# Altium footprint library PCB.PcbLib: 25 footprints (part 1 of 2)
Each footprint in its own frame and in the unit in brackets; x right, y up, seen from the top. Pads: shape width x height; smd on the part's side, far side on the other; paste and mask are expansions set on the pad; w line width, h text height; cw(c..) or ccw(c..) is an arc to the next point about the centre after c.
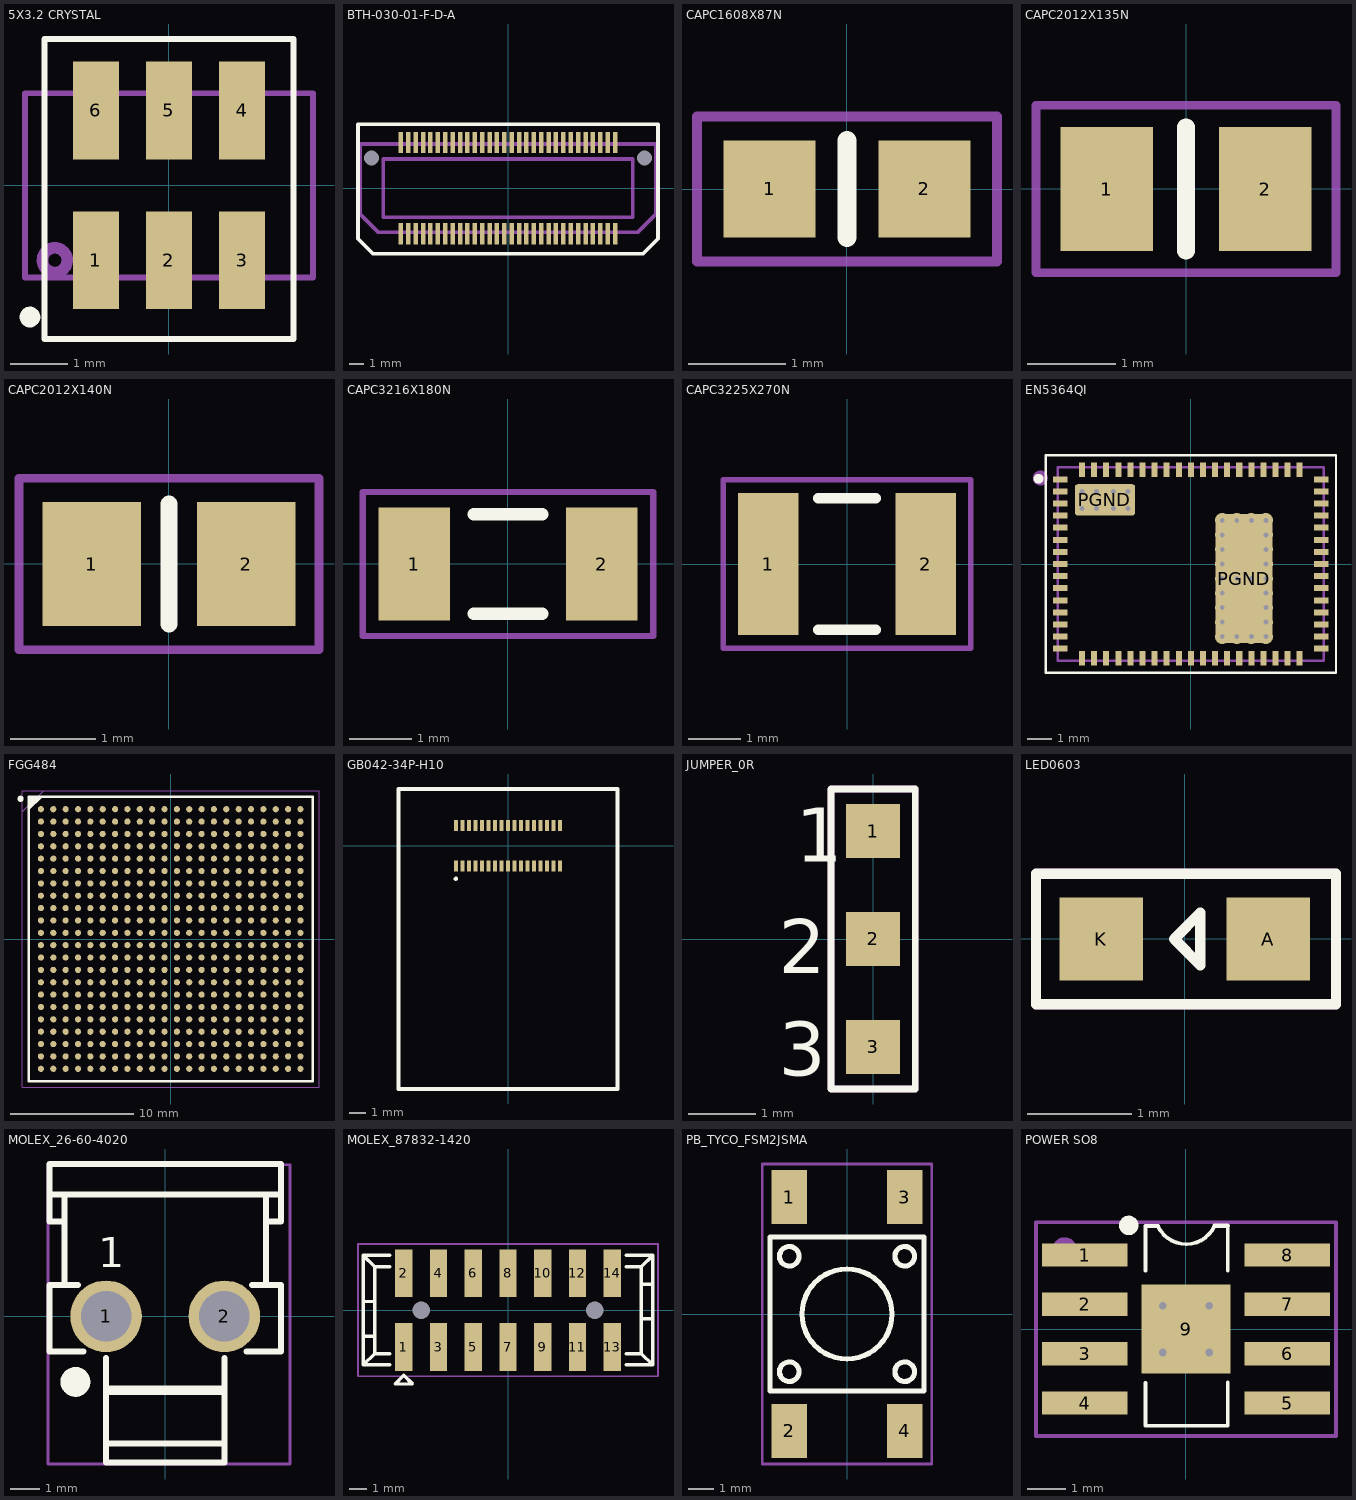
[diagram p0: the footprints below, top view; thin cyan lines are the x and y axes]

## 5X3.2 CRYSTAL [mm] "5X3.2 Crystal"
height 1.2
pads (6):
  rect 0.8x1.7 smd: 1(-1.27,-1.3) 2(0,-1.3) 3(1.27,-1.3) 4(1.27,1.3) 5(0,1.3) 6(-1.27,1.3)
Top Overlay:
  circle w0.2: c-2.413,-2.286 r0.079
  lines w0.1: -2.159,-2.667 2.159,-2.667 2.159,2.54 -2.159,2.54 -2.159,-0.858 -2.159,-2.667
Mechanical 4:
  lines w0.1: -2.5,-1.6 -2.5,1.6 2.5,1.6 2.5,-1.6 -2.5,-1.6
  lines w0.2: -1.809,-1.173 ccw(c-1.981,-1.3) -1.792,-1.199
  text ".designator" at -2.032,-0.508 h1
3D body "User Library-CRYSTALSMD5X32.STEP": height 1, standoff 0, extent -2.5,-1.625 2.5,1.575

## BTH-030-01-F-D-A [mm]
pads (62):
  rect 0.305x1.448 smd: 1(-7.25,3.086) 2(-7.25,-3.086) 3(-6.75,3.086) 4(-6.75,-3.086) 5(-6.25,3.086) 6(-6.25,-3.086) 7(-5.75,3.086) 8(-5.75,-3.086) 9(-5.25,3.086) 10(-5.25,-3.086) 11(-4.75,3.086) 12(-4.75,-3.086) 13(-4.25,3.086) 14(-4.25,-3.086) 15(-3.75,3.086) 16(-3.75,-3.086) 17(-3.25,3.086) 18(-3.25,-3.086) 19(-2.75,3.086) 20(-2.75,-3.086) 21(-2.25,3.086) 22(-2.25,-3.086) 23(-1.75,3.086) 24(-1.75,-3.086) 25(-1.25,3.086) 26(-1.25,-3.086) 27(-0.75,3.086) 28(-0.75,-3.086) 29(-0.25,3.086) 30(-0.25,-3.086) 31(0.25,3.086) 32(0.25,-3.086) 33(0.75,3.086) 34(0.75,-3.086) 35(1.25,3.086) 36(1.25,-3.086) 37(1.75,3.086) 38(1.75,-3.086) 39(2.25,3.086) 40(2.25,-3.086) 41(2.75,3.086) 42(2.75,-3.086) 43(3.25,3.086) 44(3.25,-3.086) 45(3.75,3.086) 46(3.75,-3.086) 47(4.25,3.086) 48(4.25,-3.086) 49(4.75,3.086) 50(4.75,-3.086) 51(5.25,3.086) 52(5.25,-3.086) 53(5.75,3.086) 54(5.75,-3.086) 55(6.25,3.086) 56(6.25,-3.086) 57(6.75,3.086) 58(6.75,-3.086) 59(7.25,3.086) 60(7.25,-3.086)
  round 0.8 hole 1.016 unplated mask+0.358: HOLE(-9.238,2.032) HOLE(9.238,2.032)
Top Overlay:
  lines w0.254: -10.16,-3.429 -10.16,4.318 10.16,4.318 10.16,-3.429 9.144,-4.445 -9.144,-4.445 -10.16,-3.429
Mechanical 4:
  lines w0.254: -10,-1.785 -10,2.984 10,2.984 10,-1.785 8.8,-2.985 -8.8,-2.985 -10,-1.785 ; -8.444,-1.969 -8.444,1.968 8.444,1.968 8.444,-1.969 -8.444,-1.969
  text ".Designator" at 0,0 h1
3D body "BTH-030-01-F-D-A.stp": height 4.27, standoff -0.75, extent -10.001,-3.556 10.001,3.556

## CAPC1608X87N [mm] "Chip Capacitor, Body 1.6x0.8mm IPC Medium Density"
height 0.87
pads (2):
  rect 0.95x1 smd: 1(-0.8,0) 2(0.8,0)
Top Overlay:
  lines w0.2: 0,-0.5 0,0.5
Mechanical 4:
  lines w0.1: -1.55,-0.75 1.55,-0.75 1.55,0.75 -1.55,0.75 -1.55,-0.75
  text ".Designator" at -1.524,-0.889 h1
3D body "CAPC1608X87N.stp": height 0.87, standoff 0, extent -0.875,-0.475 0.875,0.475

## CAPC2012X135N [mm] "Chip Capacitor, Body 2.0x1.25mm, IPC Medium Density"
height 1.35
pads (2):
  rect 1.05x1.4 smd: 1(-0.9,0) 2(0.9,0)
Top Overlay:
  lines w0.2: 0,-0.7 0,0.7
Mechanical 4:
  lines w0.1: -1.7,-0.95 -1.7,0.95 1.7,0.95 1.7,-0.95 -1.7,-0.95
  text ".Designator" at -1.6,-0.85 h1
3D body "CAPC2012X135N.stp": height 1.25, standoff 0, extent -1.05,-0.675 1.05,0.675

## CAPC2012X140N [mm] "Chip Capacitor, Body 2.0x1.25mm, IPC Medium Density"
height 1.4
pads (2):
  rect 1.15x1.45 smd: 1(-0.9,0) 2(0.9,0)
Top Overlay:
  lines w0.2: 0,-0.7 0,0.7
Mechanical 4:
  lines w0.1: -1.75,-1 1.75,-1 1.75,1 -1.75,1 -1.75,-1
  text ".Designator" at -1.524,-0.762 h1
3D body "CAPC2012X140N.stp": height 1.3, standoff 0, extent -1.05,-0.675 1.05,0.675

## CAPC3216X180N [mm] "Chip Capacitor, Body 3.2x1.6mm, IPC Medium Density"
height 1.8
pads (2):
  rect 1.15x1.8 smd: 1(-1.5,0) 2(1.5,0)
Top Overlay:
  lines w0.2: -0.55,-0.8 0.55,-0.8 ; -0.55,0.8 0.55,0.8
Mechanical 4:
  lines w0.1: -2.325,-1.15 2.325,-1.15 2.325,1.15 -2.325,1.15 -2.325,-1.15
  text ".Designator" at -2.175,-1 h1
3D body "CAPC3216X180N.stp": height 1.8, standoff 0, extent -1.7,-0.9 1.7,0.9

## CAPC3225X270N [mm] "Chip Capacitor, Body 3.2x2.5mm, IPC Medium Density"
height 2.7
pads (2):
  rect 1.15x2.7 smd: 1(-1.5,0) 2(1.5,0)
Top Overlay:
  lines w0.2: -0.55,-1.25 0.55,-1.25 ; -0.55,1.25 0.55,1.25
Mechanical 4:
  lines w0.1: -2.35,-1.6 2.35,-1.6 2.35,1.6 -2.35,1.6 -2.35,-1.6
  text ".Designator" at -2.15,-0.75 h1
3D body "CAPC3225X270N.stp": height 2.7, standoff 0, extent -1.7,-1.35 1.7,1.35

## EN5364QI [mm]
pads (70):
  rect 0.25x0.6 smd: AGND(2,3.9) AVIN(3,3.9) EAOUT(1,3.9) EN_PB(4,3.9) ENABLE(3.5,3.9) M/S(4.5,3.9) MAR1(-1,3.9) MAR2(-1.5,3.9) NC(-4.5,-3.9) NC(-4,-3.9) NC(-3.5,-3.9) NC(-3,-3.9) NC(-2.5,-3.9) NC(-2,-3.9) NC(-1.5,-3.9) NC(-1,-3.9) NC(-0.5,-3.9) NC(0,-3.9) NC(0.5,-3.9) OCP_ADJ(0.5,3.9) PGND(-4.5,3.9) PGND(-4,3.9) PGND(-3.5,3.9) PGND(-3,3.9) PGND(-2.5,3.9) PGND(1,-3.9) PGND(1.5,-3.9) PGND(2,-3.9) PGND(2.5,-3.9) PGND(3,-3.9) PGND(3.5,-3.9) PGND(4,-3.9) POK(2.5,3.9) PVIN(4.5,-3.9) S_DELAY(-0.5,3.9) SS(0,3.9) VFB(1.5,3.9) VSENSE(-2,3.9)
  rect 0.6x0.25 smd: NC(-5.4,-3.5) NC(-5.4,-3) NC(5.4,1) NC(5.4,1.5) NC(5.4,2) NC(5.4,2.5) PGND(-5.4,2) PGND(-5.4,2.5) PGND(-5.4,3) PGND(-5.4,3.5) PVIN(5.4,-3.5) PVIN(5.4,-3) PVIN(5.4,-2.5) PVIN(5.4,-2) PVIN(5.4,-1.5) PVIN(5.4,-1) PVIN(5.4,-0.5) PVIN(5.4,0) PVIN(5.4,0.5) SIN(5.4,3.5) SOUT(5.4,3) VOUT(-5.4,-2.5) VOUT(-5.4,-2) VOUT(-5.4,-1.5) VOUT(-5.4,-1) VOUT(-5.4,-0.5) VOUT(-5.4,0) VOUT(-5.4,0.5) VOUT(-5.4,1) VOUT(-5.4,1.5)
  rrect20% 2.5x1.3 smd: PGND(-3.55,2.65)
  rrect20% 2.35x5.35 smd: PGND(2.2,-0.6)
via -4.5,3 diameter 0.6 hole 0.2
via -4.5,2.3 diameter 0.6 hole 0.2
via -3.9,2.3 diameter 0.6 hole 0.2
via -2.6,2.3 diameter 0.6 hole 0.2
via -2.6,3 diameter 0.6 hole 0.2
via -3.9,3 diameter 0.6 hole 0.2
via -3.2,3 diameter 0.6 hole 0.2
via -3.2,2.3 diameter 0.6 hole 0.2
via 1.9,1.8 diameter 0.6 hole 0.2
via 2.5,1.8 diameter 0.6 hole 0.2
via 1.3,1.8 diameter 0.6 hole 0.2
via 1.3,1.2 diameter 0.6 hole 0.2
via 1.3,0.6 diameter 0.6 hole 0.2
via 1.3,0 diameter 0.6 hole 0.2
via 1.3,-0.6 diameter 0.6 hole 0.2
via 1.3,-1.2 diameter 0.6 hole 0.2
via 1.3,-1.8 diameter 0.6 hole 0.2
via 1.3,-2.4 diameter 0.6 hole 0.2
via 1.3,-3 diameter 0.6 hole 0.2
via 3.1,1.8 diameter 0.6 hole 0.2
via 3.1,1.2 diameter 0.6 hole 0.2
via 3.1,0.6 diameter 0.6 hole 0.2
via 3.1,0 diameter 0.6 hole 0.2
via 3.1,-0.6 diameter 0.6 hole 0.2
via 3.1,-1.2 diameter 0.6 hole 0.2
via 3.1,-1.8 diameter 0.6 hole 0.2
via 3.1,-2.4 diameter 0.6 hole 0.2
via 1.9,-3 diameter 0.6 hole 0.2
via 2.5,-3 diameter 0.6 hole 0.2
via 3.1,-3 diameter 0.6 hole 0.2
via 1.9,-0.6 diameter 0.6 hole 0.2
via 2.5,-0.6 diameter 0.6 hole 0.2
Top Overlay:
  circle w0.254: c-6.3,3.525 r0.075
  lines w0.1: -6,-4.5 -6,4.5 6,4.5 6,-4.5 -6,-4.5
Mechanical 4:
  circle w0.254: c-6.223,3.556 r0.18
  lines w0.1: -5.5,-4 -5.5,4 5.5,4 5.5,-4 -5.5,-4
  text ".Designator" at -0.1,-0.1 h1
3D body: height 1.85, standoff 0, extent -5.5,-4 5.5,4

## FGG484 [mm] "BGA, 484-Balls, Body 23x23mm, Pitch 1mm"
height 2.6
pads (484):
  round 0.5 smd: A1(-10.5,10.5) A2(-9.5,10.5) A3(-8.5,10.5) A4(-7.5,10.5) A5(-6.5,10.5) A6(-5.5,10.5) A7(-4.5,10.5) A8(-3.5,10.5) A9(-2.5,10.5) A10(-1.5,10.5) A11(-0.5,10.5) A12(0.5,10.5) A13(1.5,10.5) A14(2.5,10.5) A15(3.5,10.5) A16(4.5,10.5) A17(5.5,10.5) A18(6.5,10.5) A19(7.5,10.5) A20(8.5,10.5) A21(9.5,10.5) A22(10.5,10.5) AA1(-10.5,-9.5) AA2(-9.5,-9.5) AA3(-8.5,-9.5) AA4(-7.5,-9.5) AA5(-6.5,-9.5) AA6(-5.5,-9.5) AA7(-4.5,-9.5) AA8(-3.5,-9.5) AA9(-2.5,-9.5) AA10(-1.5,-9.5) AA11(-0.5,-9.5) AA12(0.5,-9.5) AA13(1.5,-9.5) AA14(2.5,-9.5) AA15(3.5,-9.5) AA16(4.5,-9.5) AA17(5.5,-9.5) AA18(6.5,-9.5) AA19(7.5,-9.5) AA20(8.5,-9.5) AA21(9.5,-9.5) AA22(10.5,-9.5) AB1(-10.5,-10.5) AB2(-9.5,-10.5) AB3(-8.5,-10.5) AB4(-7.5,-10.5) AB5(-6.5,-10.5) AB6(-5.5,-10.5) AB7(-4.5,-10.5) AB8(-3.5,-10.5) AB9(-2.5,-10.5) AB10(-1.5,-10.5) AB11(-0.5,-10.5) AB12(0.5,-10.5) AB13(1.5,-10.5) AB14(2.5,-10.5) AB15(3.5,-10.5) AB16(4.5,-10.5) AB17(5.5,-10.5) AB18(6.5,-10.5) AB19(7.5,-10.5) AB20(8.5,-10.5) AB21(9.5,-10.5) AB22(10.5,-10.5) B1(-10.5,9.5) B2(-9.5,9.5) B3(-8.5,9.5) B4(-7.5,9.5) B5(-6.5,9.5) B6(-5.5,9.5) B7(-4.5,9.5) B8(-3.5,9.5) B9(-2.5,9.5) B10(-1.5,9.5) B11(-0.5,9.5) B12(0.5,9.5) B13(1.5,9.5) B14(2.5,9.5) B15(3.5,9.5) B16(4.5,9.5) B17(5.5,9.5) B18(6.5,9.5) B19(7.5,9.5) B20(8.5,9.5) B21(9.5,9.5) B22(10.5,9.5) C1(-10.5,8.5) C2(-9.5,8.5) C3(-8.5,8.5) C4(-7.5,8.5) C5(-6.5,8.5) C6(-5.5,8.5) C7(-4.5,8.5) C8(-3.5,8.5) C9(-2.5,8.5) C10(-1.5,8.5) C11(-0.5,8.5) C12(0.5,8.5) C13(1.5,8.5) C14(2.5,8.5) C15(3.5,8.5) C16(4.5,8.5) C17(5.5,8.5) C18(6.5,8.5) C19(7.5,8.5) C20(8.5,8.5) C21(9.5,8.5) C22(10.5,8.5) D1(-10.5,7.5) D2(-9.5,7.5) D3(-8.5,7.5) D4(-7.5,7.5) D5(-6.5,7.5) D6(-5.5,7.5) D7(-4.5,7.5) D8(-3.5,7.5) D9(-2.5,7.5) D10(-1.5,7.5) D11(-0.5,7.5) D12(0.5,7.5) D13(1.5,7.5) D14(2.5,7.5) D15(3.5,7.5) D16(4.5,7.5) D17(5.5,7.5) D18(6.5,7.5) D19(7.5,7.5) D20(8.5,7.5) D21(9.5,7.5) D22(10.5,7.5) E1(-10.5,6.5) E2(-9.5,6.5) E3(-8.5,6.5) E4(-7.5,6.5) E5(-6.5,6.5) E6(-5.5,6.5) E7(-4.5,6.5) E8(-3.5,6.5) E9(-2.5,6.5) E10(-1.5,6.5) E11(-0.5,6.5) E12(0.5,6.5) E13(1.5,6.5) E14(2.5,6.5) E15(3.5,6.5) E16(4.5,6.5) E17(5.5,6.5) E18(6.5,6.5) E19(7.5,6.5) E20(8.5,6.5) E21(9.5,6.5) E22(10.5,6.5) F1(-10.5,5.5) F2(-9.5,5.5) F3(-8.5,5.5) F4(-7.5,5.5) F5(-6.5,5.5) F6(-5.5,5.5) F7(-4.5,5.5) F8(-3.5,5.5) F9(-2.5,5.5) F10(-1.5,5.5) F11(-0.5,5.5) F12(0.5,5.5) F13(1.5,5.5) F14(2.5,5.5) F15(3.5,5.5) F16(4.5,5.5) F17(5.5,5.5) F18(6.5,5.5) F19(7.5,5.5) F20(8.5,5.5) F21(9.5,5.5) F22(10.5,5.5) G1(-10.5,4.5) G2(-9.5,4.5) G3(-8.5,4.5) G4(-7.5,4.5) G5(-6.5,4.5) G6(-5.5,4.5) G7(-4.5,4.5) G8(-3.5,4.5) G9(-2.5,4.5) G10(-1.5,4.5) G11(-0.5,4.5) G12(0.5,4.5) G13(1.5,4.5) G14(2.5,4.5) G15(3.5,4.5) G16(4.5,4.5) G17(5.5,4.5) G18(6.5,4.5) G19(7.5,4.5) G20(8.5,4.5) G21(9.5,4.5) G22(10.5,4.5) H1(-10.5,3.5) H2(-9.5,3.5) H3(-8.5,3.5) H4(-7.5,3.5) H5(-6.5,3.5) H6(-5.5,3.5) H7(-4.5,3.5) H8(-3.5,3.5) H9(-2.5,3.5) H10(-1.5,3.5) H11(-0.5,3.5) H12(0.5,3.5) H13(1.5,3.5) H14(2.5,3.5) H15(3.5,3.5) H16(4.5,3.5) H17(5.5,3.5) H18(6.5,3.5) H19(7.5,3.5) H20(8.5,3.5) H21(9.5,3.5) H22(10.5,3.5) J1(-10.5,2.5) J2(-9.5,2.5) J3(-8.5,2.5) J4(-7.5,2.5) J5(-6.5,2.5) J6(-5.5,2.5) J7(-4.5,2.5) J8(-3.5,2.5) J9(-2.5,2.5) J10(-1.5,2.5) J11(-0.5,2.5) J12(0.5,2.5) J13(1.5,2.5) J14(2.5,2.5) J15(3.5,2.5) J16(4.5,2.5) J17(5.5,2.5) J18(6.5,2.5) J19(7.5,2.5) J20(8.5,2.5) J21(9.5,2.5) J22(10.5,2.5) K1(-10.5,1.5) K2(-9.5,1.5) K3(-8.5,1.5) K4(-7.5,1.5) K5(-6.5,1.5) K6(-5.5,1.5) K7(-4.5,1.5) K8(-3.5,1.5) K9(-2.5,1.5) K10(-1.5,1.5) K11(-0.5,1.5) K12(0.5,1.5) K13(1.5,1.5) K14(2.5,1.5) K15(3.5,1.5) K16(4.5,1.5) K17(5.5,1.5) K18(6.5,1.5) K19(7.5,1.5) K20(8.5,1.5) K21(9.5,1.5) K22(10.5,1.5) L1(-10.5,0.5) L2(-9.5,0.5) L3(-8.5,0.5) L4(-7.5,0.5) L5(-6.5,0.5) L6(-5.5,0.5) L7(-4.5,0.5) L8(-3.5,0.5) L9(-2.5,0.5) L10(-1.5,0.5) L11(-0.5,0.5) L12(0.5,0.5) L13(1.5,0.5) L14(2.5,0.5) L15(3.5,0.5) L16(4.5,0.5) L17(5.5,0.5) L18(6.5,0.5) L19(7.5,0.5) L20(8.5,0.5) L21(9.5,0.5) L22(10.5,0.5) M1(-10.5,-0.5) M2(-9.5,-0.5) M3(-8.5,-0.5) M4(-7.5,-0.5) M5(-6.5,-0.5) M6(-5.5,-0.5) M7(-4.5,-0.5) M8(-3.5,-0.5) M9(-2.5,-0.5) M10(-1.5,-0.5) M11(-0.5,-0.5) M12(0.5,-0.5) M13(1.5,-0.5) M14(2.5,-0.5) M15(3.5,-0.5) M16(4.5,-0.5) M17(5.5,-0.5) M18(6.5,-0.5) M19(7.5,-0.5) M20(8.5,-0.5) M21(9.5,-0.5) M22(10.5,-0.5) N1(-10.5,-1.5) N2(-9.5,-1.5) N3(-8.5,-1.5) N4(-7.5,-1.5) N5(-6.5,-1.5) N6(-5.5,-1.5) N7(-4.5,-1.5) N8(-3.5,-1.5) N9(-2.5,-1.5) N10(-1.5,-1.5) N11(-0.5,-1.5) N12(0.5,-1.5) N13(1.5,-1.5) N14(2.5,-1.5) N15(3.5,-1.5) N16(4.5,-1.5) N17(5.5,-1.5) N18(6.5,-1.5) N19(7.5,-1.5) N20(8.5,-1.5) N21(9.5,-1.5) N22(10.5,-1.5) P1(-10.5,-2.5) P2(-9.5,-2.5) P3(-8.5,-2.5) P4(-7.5,-2.5) P5(-6.5,-2.5) P6(-5.5,-2.5) P7(-4.5,-2.5) P8(-3.5,-2.5) P9(-2.5,-2.5) P10(-1.5,-2.5) P11(-0.5,-2.5) P12(0.5,-2.5) P13(1.5,-2.5) P14(2.5,-2.5) P15(3.5,-2.5) P16(4.5,-2.5) P17(5.5,-2.5) P18(6.5,-2.5) P19(7.5,-2.5) P20(8.5,-2.5) P21(9.5,-2.5) P22(10.5,-2.5) R1(-10.5,-3.5) R2(-9.5,-3.5) R3(-8.5,-3.5) R4(-7.5,-3.5) R5(-6.5,-3.5) R6(-5.5,-3.5) R7(-4.5,-3.5) R8(-3.5,-3.5) R9(-2.5,-3.5) R10(-1.5,-3.5) R11(-0.5,-3.5) R12(0.5,-3.5) R13(1.5,-3.5) R14(2.5,-3.5) R15(3.5,-3.5) R16(4.5,-3.5) R17(5.5,-3.5) R18(6.5,-3.5) R19(7.5,-3.5) R20(8.5,-3.5) R21(9.5,-3.5) R22(10.5,-3.5) T1(-10.5,-4.5) T2(-9.5,-4.5) T3(-8.5,-4.5) T4(-7.5,-4.5) T5(-6.5,-4.5) T6(-5.5,-4.5) T7(-4.5,-4.5) T8(-3.5,-4.5) T9(-2.5,-4.5) T10(-1.5,-4.5) T11(-0.5,-4.5) T12(0.5,-4.5) T13(1.5,-4.5) T14(2.5,-4.5) T15(3.5,-4.5) T16(4.5,-4.5) T17(5.5,-4.5) T18(6.5,-4.5) T19(7.5,-4.5) T20(8.5,-4.5) T21(9.5,-4.5) T22(10.5,-4.5) U1(-10.5,-5.5) U2(-9.5,-5.5) U3(-8.5,-5.5) U4(-7.5,-5.5) U5(-6.5,-5.5) U6(-5.5,-5.5) U7(-4.5,-5.5) U8(-3.5,-5.5) U9(-2.5,-5.5) U10(-1.5,-5.5) U11(-0.5,-5.5) U12(0.5,-5.5) U13(1.5,-5.5) U14(2.5,-5.5) U15(3.5,-5.5) U16(4.5,-5.5) U17(5.5,-5.5) U18(6.5,-5.5) U19(7.5,-5.5) U20(8.5,-5.5) U21(9.5,-5.5) U22(10.5,-5.5) V1(-10.5,-6.5) V2(-9.5,-6.5) V3(-8.5,-6.5) V4(-7.5,-6.5) V5(-6.5,-6.5) V6(-5.5,-6.5) V7(-4.5,-6.5) V8(-3.5,-6.5) V9(-2.5,-6.5) V10(-1.5,-6.5) V11(-0.5,-6.5) V12(0.5,-6.5) V13(1.5,-6.5) V14(2.5,-6.5) V15(3.5,-6.5) V16(4.5,-6.5) V17(5.5,-6.5) V18(6.5,-6.5) V19(7.5,-6.5) V20(8.5,-6.5) V21(9.5,-6.5) V22(10.5,-6.5) W1(-10.5,-7.5) W2(-9.5,-7.5) W3(-8.5,-7.5) W4(-7.5,-7.5) W5(-6.5,-7.5) W6(-5.5,-7.5) W7(-4.5,-7.5) W8(-3.5,-7.5) W9(-2.5,-7.5) W10(-1.5,-7.5) W11(-0.5,-7.5) W12(0.5,-7.5) W13(1.5,-7.5) W14(2.5,-7.5) W15(3.5,-7.5) W16(4.5,-7.5) W17(5.5,-7.5) W18(6.5,-7.5) W19(7.5,-7.5) W20(8.5,-7.5) W21(9.5,-7.5) W22(10.5,-7.5) Y1(-10.5,-8.5) Y2(-9.5,-8.5) Y3(-8.5,-8.5) Y4(-7.5,-8.5) Y5(-6.5,-8.5) Y6(-5.5,-8.5) Y7(-4.5,-8.5) Y8(-3.5,-8.5) Y9(-2.5,-8.5) Y10(-1.5,-8.5) Y11(-0.5,-8.5) Y12(0.5,-8.5) Y13(1.5,-8.5) Y14(2.5,-8.5) Y15(3.5,-8.5) Y16(4.5,-8.5) Y17(5.5,-8.5) Y18(6.5,-8.5) Y19(7.5,-8.5) Y20(8.5,-8.5) Y21(9.5,-8.5) Y22(10.5,-8.5)
Top Overlay:
  circle w0.25: c-12.15,11.35 r0.125
  region: -10.5,11.5 -11.5,10.5 -11.5,11.5
  lines w0.2: -11.5,10.5 -10.5,11.5 ; -11.5,-11.5 11.5,-11.5 11.5,11.5 -11.5,11.5 -11.5,-11.5
Mechanical 4:
  lines w0.1: -12,10.287 -10.287,12 -10.16,12 ; -12,-12 -12,12 12,12 12,-12 -12,-12
  text ".Designator" at 0,0 h1
3D body: height 2.6, standoff 0.35, extent -11.5,-11.5 11.5,11.5

## GB042-34P-H10 [mm]
pads (34):
  rect 0.23x0.7 smd: 1(-3.2,-1.25) 2(-2.8,-1.25) 3(-2.4,-1.25) 4(-2,-1.25) 5(-1.6,-1.25) 6(-1.2,-1.25) 7(-0.8,-1.25) 8(-0.4,-1.25) 9(0,-1.25) 10(0.4,-1.25) 11(0.8,-1.25) 12(1.2,-1.25) 13(1.6,-1.25) 14(2,-1.25) 15(2.4,-1.25) 16(2.8,-1.25) 17(3.2,-1.25) 18(3.2,1.25) 19(2.8,1.25) 20(2.4,1.25) 21(2,1.25) 22(1.6,1.25) 23(1.2,1.25) 24(0.8,1.25) 25(0.4,1.25) 26(0,1.25) 27(-0.4,1.25) 28(-0.8,1.25) 29(-1.2,1.25) 30(-1.6,1.25) 31(-2,1.25) 32(-2.4,1.25) 33(-2.8,1.25) 34(-3.2,1.25)
Top Overlay:
  lines w0.254: -3.225,-2.05 -3.2,-2.025 ; -6.75,-15 -6.75,3.5 6.75,3.5 6.75,-15 -6.75,-15
Mechanical 4:
  lines w0.1: -6.7,-15 6.7,-15 6.7,3.5 -6.7,3.5 -6.7,-15
  text ".Designator" at -1.397,-5.08 h1
3D body: height 5.4, standoff 5, extent -6.25,-13.85 6.325,-1.6
3D body: height 5, standoff 4, extent -6.775,-15.025 6.75,3.525

## JUMPER_0R [mm]
pads (3):
  rect 0.8x0.8 smd: 1(0,1.6) 2(0,0) 3(0,-1.6)
Top Overlay:
  lines w0.1: -0.625,-0.65 -0.625,2.225 0.625,2.225 0.625,-0.65 ; -0.625,0.65 -0.625,-2.225 0.625,-2.225 0.625,0.65
  text "3" at -1.397,-2.032 h0.8
  text "2" at -1.397,-0.508 h0.8
  text "1" at -1.143,1.143 h0.8
Mechanical 4:
  lines w0.1: -0.625,-0.65 -0.625,2.225 0.625,2.225 0.625,-0.65 ; -0.625,0.65 -0.625,-2.225 0.625,-2.225 0.625,0.65
  text ".Designator" at 0.4,-2 h0.9
3D body "R0603.step": height 0.38, standoff 0, extent -0.4,-1.55 0.4,0.05

## LED0603 [mm]
pads (2):
  rect 0.8x0.8 smd: A(0.8,0) K(-0.8,0)
Top Overlay:
  lines w0.1: -1.425,-0.625 -1.425,0.625 1.45,0.625 1.45,-0.625 -1.425,-0.625 ; -0.1,0 0.15,0.25 0.15,-0.25 -0.1,0
Mechanical 4:
  lines w0.1: -1.425,-0.625 1.45,-0.625 1.45,0.625 -1.425,0.625 -1.425,-0.625
  text ".Designator" at -1.27,-0.508 h0.9
3D body "User Library-LTST-C190GKT.STEP": height 0.9, standoff 0, extent -0.85,-0.45 0.85,0.45

## MOLEX_26-60-4020 [mm] "3.96mm (.156\") Pitch KK® Solid Header, Vertical, Friction Lock, 2 Circuits, Tin (Sn) Plating"
height 14.73
pads (2):
  round 2.4 hole 1.7: 1(-1.981,0) 2(1.981,0)
Top Overlay:
  circle w0.5: c-3.011,-2.2 r0.25
  lines w0.2: -3.886,4.089 3.886,4.089 ; -3.378,1.041 -3.378,4.089 ; -3.378,3.182 -3.886,3.182 -3.886,5.105 3.886,5.105 3.886,3.182 3.378,3.182 ; -2.917,1.041 -3.886,1.041 -3.886,-1.181 -2.733,-1.181 ; -1.981,-4.267 1.981,-4.267 ; -1.981,-2.548 1.981,-2.548 ; -1.981,-2.413 1.981,-2.413 ; -1.981,-1.4 -1.981,-4.902 1.981,-4.902 1.981,-1.4 ; 2.733,-1.181 3.886,-1.181 3.886,1.041 2.917,1.041 ; 3.378,1.041 3.378,4.089
  text "1" at -2.249,1.65 h1
Mechanical 4:
  lines w0.1: -3.937,-4.953 -3.937,5.08 4.191,5.08 4.191,-4.953 -3.937,-4.953
  text ".Designator" at -2.905,2.598 h1
3D body "MOLEX_26-60-4020.stp": height 14.73, standoff -3.56, extent -3.886,-4.902 3.886,5.106

## MOLEX_87832-1420 [mm] "Milli-Grid, Pitch 2mm, 14 contacts, Surface Mount Vertical Header With Locking Window And Centre Polarization Slot"
height 6.4
pads (16):
  rect 1x2.75 smd: 1(-6,-2.125) 2(-6,2.125) 3(-4,-2.125) 4(-4,2.125) 5(-2,-2.125) 6(-2,2.125) 7(0,-2.125) 8(0,2.125) 9(2,-2.125) 10(2,2.125) 11(4,-2.125) 12(4,2.125) 13(6,-2.125) 14(6,2.125)
  round 0.5 hole 1 unplated: HOLE(-5,0) HOLE(5,0)
Top Overlay:
  lines w0.2: -8.325,-1.5 -7.675,-1.5 ; -8.325,0.5 -7.675,0.5 ; -6.8,-3.15 -8.325,-3.15 ; -6.8,-2.5 -7.675,-2.5 ; -6.8,2.5 -7.675,2.5 ; -6.8,3.15 -8.325,3.15 ; 6.8,-3.15 8.325,-3.15 ; 6.8,-2.5 7.675,-2.5 ; 6.8,2.5 7.675,2.5 ; 6.8,3.15 8.325,3.15 ; 7.675,-0.5 8.325,-0.5 ; 7.675,1.5 8.325,1.5 ; -8.325,-3.15 -7.675,-2.5 ; -8.325,-3.15 -8.325,3.15 ; -8.325,3.15 -7.675,2.5 ; -7.675,-2.5 -7.675,2.5 ; 7.675,-2.5 7.675,2.5 ; 7.675,-2.5 8.325,-3.15 ; 7.675,-2.5 8.325,-3.15 ; 7.675,2.5 8.325,3.15 ; 7.675,2.5 8.325,3.15 ; 8.325,-3.15 8.325,3.15 ; -6.5,-4.25 -5.5,-4.25 -6,-3.75 -6.5,-4.25
Mechanical 4:
  lines w0.1: -8.636,-3.81 -8.636,3.81 8.636,3.81 8.636,-3.81 -8.636,-3.81
  text ".Designator" at -0.111,-0.069 h1
3D body "MOLEX_87832-1420.stp": height 7.6, standoff -1, extent -8.325,-3.15 8.325,3.15

## PB_TYCO_FSM2JSMA [mm] "Body 6mm x 6mm, Surface Mount Tactile Switches, TYCO FSMJSMA Series"
height 4.59
pads (4):
  rect 1.4x2.1 smd: 1(-2.25,4.55) 2(-2.25,-4.55) 3(2.25,4.55) 4(2.25,-4.55)
Top Overlay:
  circle w0.2: c0,0 r1.753
  circle w0.2: c2.248,2.248 r0.381
  circle w0.2: c2.248,-2.248 r0.381
  circle w0.2: c-2.248,2.248 r0.381
  circle w0.2: c-2.248,-2.248 r0.381
  lines w0.2: -3,-3 -3,3 3,3 3,-3 -3,-3
Mechanical 4:
  lines w0.1: -3.302,-5.842 -3.302,5.842 3.302,5.842 3.302,-5.842 -3.302,-5.842
  text ".Designator" at -0.111,-0.069 h1
3D body "PB_TYCO_FSM2JSMA.stp": height 4.39, standoff 0, extent -3,-5 3,5

## POWER SO8 [mm]
pads (9):
  rect 2.2x0.6 smd: 1(-2.603,1.905) 2(-2.603,0.635) 3(-2.603,-0.635) 4(-2.603,-1.905) 5(2.603,-1.905) 6(2.603,-0.635) 7(2.603,0.635) 8(2.603,1.905)
  rect 2.29x2.29 smd: 9(0,0)
via -0.6,-0.6 diameter 0.6 hole 0.2
via 0.6,-0.6 diameter 0.6 hole 0.2
via 0.6,0.6 diameter 0.6 hole 0.2
via -0.6,0.6 diameter 0.6 hole 0.2
Top Overlay:
  circle w0.25: c-1.473,2.667 r0.125
  lines w0.1: -1.041,-1.384 -1.041,-2.489 1.075,-2.489 1.075,-1.375 ; -1.041,1.509 -1.041,2.656 -0.722,2.656 ccw(c0.007,2.982) 0.737,2.662 ; 1.075,1.5 1.075,2.662
  lines w0.11: 0.737,2.662 1.075,2.662
Mechanical 4:
  circle w0.2: c-3.125,2.05 r0.212
  lines w0.1: -3.861,-2.75 3.861,-2.75 3.861,2.75 -3.861,2.75 -3.861,-2.75
  text ".Designator" at 0,0 h1
3D body "so8.STEP": height 1.84, standoff 0.08, extent -3.068,-2.425 3.068,2.465